# Altium schematic symbol library MQ135.SchLib: 1 symbol
Pins are listed as number, name and electrical type; pins without a type are passive.

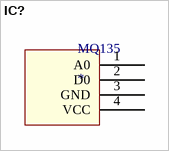
[diagram p0: symbol IC?]

## IC?
designator MQ135
pins: 1 A0, 2 D0, 3 GND, 4 VCC